# EAGLE library part HEADER_PINS (library music_box)
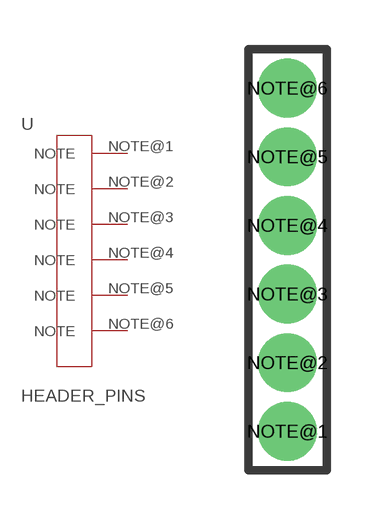
[diagram p1: symbol with the pads of HEADER_PINS; footprint HEADER_PINS]

Designator prefix -

## HEADER_PINS  [HEADER_PINS]
NOTE@1  NOTE
NOTE@2  NOTE
NOTE@3  NOTE
NOTE@4  NOTE
NOTE@5  NOTE
NOTE@6  NOTE

## Footprint HEADER_PINS (pad centres in mm)
drill 1.2: NOTE@1 1.2,1.2; NOTE@2 1.2,3.3; NOTE@3 1.2,5.4; NOTE@4 1.2,7.5; NOTE@5 1.2,9.6; NOTE@6 1.2,11.7